# EAGLE library part IC4511 (library chuong)
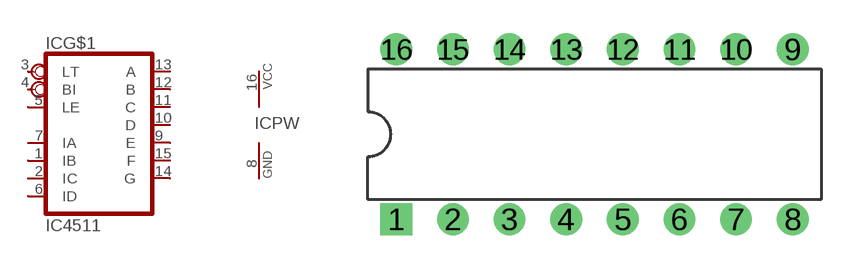
[diagram p55: symbol with the pads of DIL-16; footprint DIL-16]

Designator prefix IC; gates G$1=IC4511 PW=POWER

## IC4511  [DIL-16]
1  G$1:IB  in
2  G$1:IC  in
3  G$1:LT  in
4  G$1:BI  in
5  G$1:LE  in
6  G$1:ID  in
7  G$1:IA  in
8  PW:GND  pwr
9  G$1:E  out
10  G$1:D  out
11  G$1:C  out
12  G$1:B  out
13  G$1:A  out
14  G$1:G  out
15  G$1:F  out
16  PW:VCC  pwr

## Footprint DIL-16 (pad centres in mm)
drill 0.61 pad 1.422 square: 1 -8.89,-3.81
drill 0.61 pad 1.422 round: 2 -6.35,-3.81; 3 -3.81,-3.81; 4 -1.27,-3.81; 5 1.27,-3.81; 6 3.81,-3.81; 7 6.35,-3.81; 8 8.89,-3.81; 9 8.89,3.81; 10 6.35,3.81; 11 3.81,3.81; 12 1.27,3.81; 13 -1.27,3.81; 14 -3.81,3.81; 15 -6.35,3.81; 16 -8.89,3.81